# Altium footprint library LSM6DSV320XTR.PcbLib: 1 footprints
Each footprint in its own frame and in the unit in brackets; x right, y up, seen from the top. Pads: shape width x height; smd on the part's side, far side on the other; paste and mask are expansions set on the pad; w line width, h text height; cw(c..) or ccw(c..) is an arc to the next point about the centre after c.
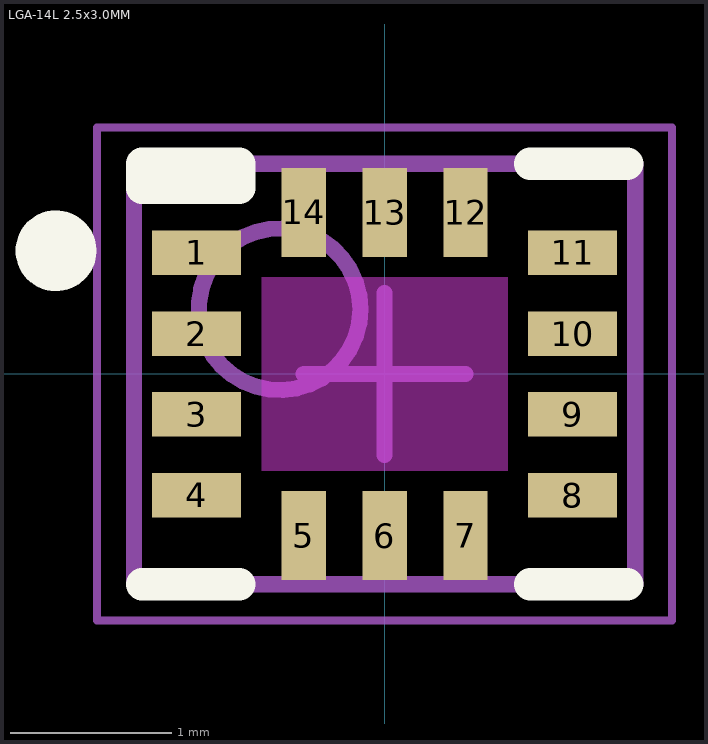
[diagram p0: the footprint, top view; thin cyan lines are the x and y axes]

## LGA-14L 2.5x3.0MM [mm] "LGA, 14-Leads, Body 3.00x2.50mm, Pitch 0.50mm"
height 0.86
pads (14):
  rect 0.55x0.275 smd: 1(-1.162,0.75) 2(-1.162,0.25) 3(-1.162,-0.25) 4(-1.162,-0.75) 8(1.162,-0.75) 9(1.162,-0.25) 10(1.162,0.25) 11(1.162,0.75)
  rect 0.275x0.55 smd: 5(-0.5,-1) 6(0,-1) 7(0.5,-1) 12(0.5,1) 13(0,1) 14(-0.5,1)
Top Layer keep-out:
  rectangle: -0.762,-0.6 0.762,0.6
Top Overlay:
  circle w0.25: c-2.032,0.762 r0.125
  lines w0.2: -1.5,-1.3 -0.9,-1.3 ; 0.9,-1.3 1.5,-1.3 ; 0.9,1.3 1.5,1.3 ; -1.5,1.15 -1.5,1.3 -0.9,1.3 -0.9,1.15 -1.5,1.15
Mechanical 13:
  circle w0.1: c-0.65,0.4 r0.5
  lines w0.1: -1.55,-1.3 1.55,-1.3 1.55,1.3 -1.55,1.3 -1.55,-1.3
Mechanical 15:
  lines w0.05: -1.778,-1.524 1.778,-1.524 1.778,1.524 -1.778,1.524 -1.778,-1.524
  lines w0.1: -0.5,0 0.5,0 ; 0,-0.5 0,0.5
3D body "LGA-14L 2.5x3.0MM.step": height 0.86, standoff 0, extent -1.55,-1.3 1.55,1.3